# Altium footprint library Molex Picolock 4pos.PCBLIB: 1 footprints
Each footprint in its own frame and in the unit in brackets; x right, y up, seen from the top. Pads: shape width x height; smd on the part's side, far side on the other; paste and mask are expansions set on the pad; w line width, h text height; cw(c..) or ccw(c..) is an arc to the next point about the centre after c.
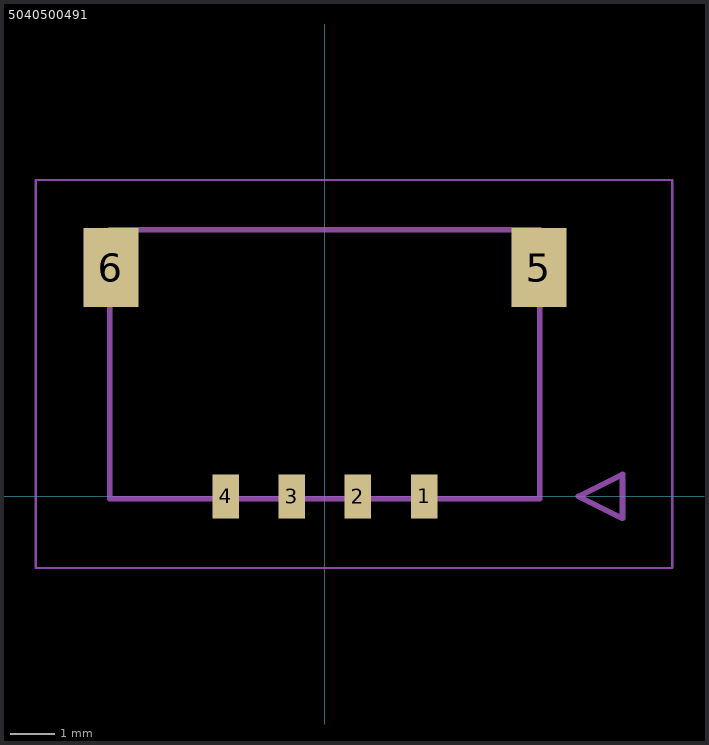
[diagram p0: the footprint, top view; thin cyan lines are the x and y axes]

## 5040500491 [mm]
pads (6):
  rect 0.6x1 smd: 1(2.25,0) 2(0.75,0) 3(-0.75,0) 4(-2.25,0)
  rect 1.25x1.8 smd: 5(4.855,5.19) 6(-4.855,5.19)
tDocu:
  lines w0.05: -6.556,-1.627 7.877,-1.627 7.877,7.177 -6.556,7.177 -6.556,-1.627
  lines w0.127: -4.875,-0.05 4.875,-0.05 4.875,6.05 -4.875,6.05 -4.875,-0.05 ; 5.75,0 6.75,-0.5 6.75,0.5 5.75,0
tPlace:
  lines w0.127: 5.75,0 6.75,-0.5 6.75,0.5 5.75,0